# Altium footprint library n21-p2.PcbLib: 42 footprints (part 1 of 3)
Each footprint in its own frame and in the unit in brackets; x right, y up, seen from the top. Pads: shape width x height; smd on the part's side, far side on the other; paste and mask are expansions set on the pad; w line width, h text height; cw(c..) or ccw(c..) is an arc to the next point about the centre after c.
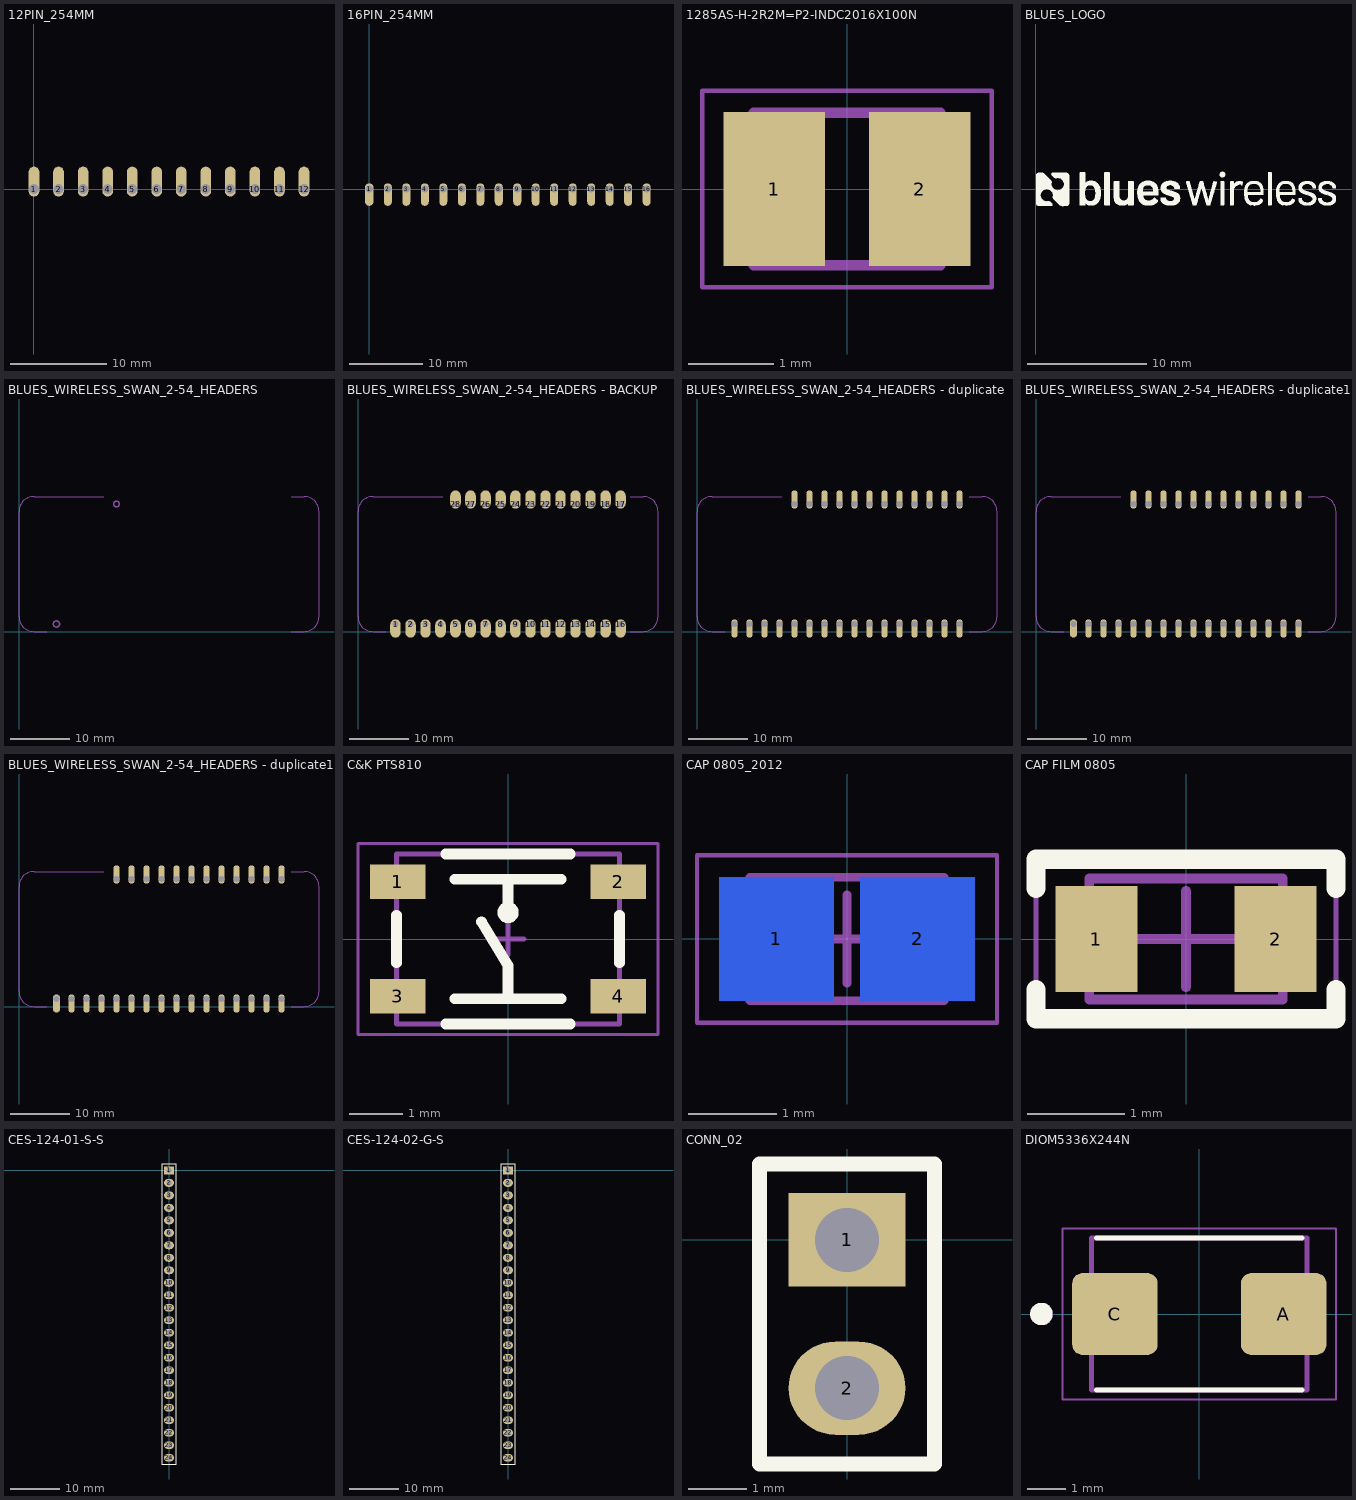
[diagram p0: the footprints below, top view; thin cyan lines are the x and y axes]

## 12PIN_254MM [mm]
pads (12):
  rrect100% 1.1x3.1 hole 1 copper offset 0,0.762: 1(0,0) 2(2.54,0) 3(5.08,0) 4(7.62,0) 5(10.16,0) 6(12.7,0) 7(15.24,0) 8(17.78,0) 9(20.32,0) 10(22.86,0) 11(25.4,0) 12(27.94,0)
3D body "CES-112-01-L-S.stp": height 5.09, standoff -3.24, extent -1.27,-1.524 29.21,1.524

## 16PIN_254MM [mm]
pads (16):
  rrect100% 1.16x3.1 hole 1 copper offset 0,-0.762: 1(0,0)
  rrect100% 1.1x3.1 hole 1 copper offset 0,-0.762: 2(2.54,0) 3(5.08,0) 4(7.62,0) 5(10.16,0) 6(12.7,0) 7(15.24,0) 8(17.78,0) 9(20.32,0) 10(22.86,0) 11(25.4,0) 12(27.94,0) 13(30.48,0) 14(33.02,0) 15(35.56,0) 16(38.1,0)
3D body "CES-116-01-L-S.stp": height 5.09, standoff -3.24, extent -1.27,-1.524 39.37,1.524

## 1285AS-H-2R2M=P2-INDC2016X100N [mm]
pads (2):
  rect 1.2x1.82 smd: 1(-0.86,0) 2(0.86,0)
Mechanical 13:
  lines w0.127: -1.1,-0.9 -1.1,0.9 1.1,0.9 1.1,-0.9 -1.1,-0.9
Mechanical 15:
  lines w0.05: -1.708,-1.158 -1.708,1.158 1.708,1.158 1.708,-1.158 -1.708,-1.158
3D body "step_temp.STEP": height 1.2, standoff 0, extent -1,-0.8 1,0.8

## BLUES_LOGO [mm]
Top Overlay:
  drawing of 15 lines, arcs and shapes, not listed

## BLUES_WIRELESS_SWAN_2-54_HEADERS [mm]
Mechanical 1:
  circle w0.254: c6.35,1.27 r0.532
  circle w0.254: c16.51,21.59 r0.49
Top 3D Body:
  lines w0: 4.699,0 2.54,0 cw(c2.54,2.54) 0,2.54 0,20.32 cw(c2.54,20.32) 2.54,22.86 14.351,22.86 ; 46.101,0 48.26,0 ccw(c48.26,2.54) 50.8,2.54 50.8,20.32 ccw(c48.26,20.32) 48.26,22.86 46.101,22.86

## BLUES_WIRELESS_SWAN_2-54_HEADERS - BACKUP [mm]
pads (28):
  rrect100% 1.778x3.1 hole 1 copper offset 0,-0.762: 1(6.35,1.27) 2(8.89,1.27) 3(11.43,1.27) 4(13.97,1.27) 5(16.51,1.27) 6(19.05,1.27) 7(21.59,1.27) 8(24.13,1.27) 9(26.67,1.27) 10(29.21,1.27) 11(31.75,1.27) 12(34.29,1.27) 13(36.83,1.27) 14(39.37,1.27) 15(41.91,1.27) 16(44.45,1.27)
  rrect100% 1.778x3.1 hole 1 copper offset 0,0.762: 17(44.45,21.59) 18(41.91,21.59) 19(39.37,21.59) 20(36.83,21.59) 21(34.29,21.59) 22(31.75,21.59) 23(29.21,21.59) 24(26.67,21.59) 25(24.13,21.59) 26(21.59,21.59) 27(19.05,21.59) 28(16.51,21.59)
Top 3D Body:
  lines w0: 4.699,0 2.54,0 cw(c2.54,2.54) 0,2.54 0,20.32 cw(c2.54,20.32) 2.54,22.86 14.351,22.86 ; 46.101,0 48.26,0 ccw(c48.26,2.54) 50.8,2.54 50.8,20.32 ccw(c48.26,20.32) 48.26,22.86 46.101,22.86

## BLUES_WIRELESS_SWAN_2-54_HEADERS - duplicate [mm]
pads (28):
  rrect100% 1.1x3.1 hole 1 copper offset 0,-0.762: 1(6.35,1.27) 2(8.89,1.27) 3(11.43,1.27) 4(13.97,1.27) 5(16.51,1.27) 6(19.05,1.27) 7(21.59,1.27) 8(24.13,1.27) 9(26.67,1.27) 10(29.21,1.27) 11(31.75,1.27) 12(34.29,1.27) 13(36.83,1.27) 14(39.37,1.27) 15(41.91,1.27) 16(44.45,1.27)
  rrect100% 1.1x3.1 hole 1 copper offset 0,0.762: 17(44.45,21.59) 18(41.91,21.59) 19(39.37,21.59) 20(36.83,21.59) 21(34.29,21.59) 22(31.75,21.59) 23(29.21,21.59) 24(26.67,21.59) 25(24.13,21.59) 26(21.59,21.59) 27(19.05,21.59) 28(16.51,21.59)
Top 3D Body:
  lines w0: 4.699,0 2.54,0 cw(c2.54,2.54) 0,2.54 0,20.32 cw(c2.54,20.32) 2.54,22.86 14.351,22.86 ; 46.101,0 48.26,0 ccw(c48.26,2.54) 50.8,2.54 50.8,20.32 ccw(c48.26,20.32) 48.26,22.86 46.101,22.86

## BLUES_WIRELESS_SWAN_2-54_HEADERS - duplicate1 [mm]
pads (28):
  rrect100% 1.16x3.1 hole 1 copper offset 0,-0.762: 1(6.35,1.27)
  rrect100% 1.1x3.1 hole 1 copper offset 0,-0.762: 2(8.89,1.27) 3(11.43,1.27) 4(13.97,1.27) 5(16.51,1.27) 6(19.05,1.27) 7(21.59,1.27) 8(24.13,1.27) 9(26.67,1.27) 10(29.21,1.27) 11(31.75,1.27) 12(34.29,1.27) 13(36.83,1.27) 14(39.37,1.27) 15(41.91,1.27) 16(44.45,1.27)
  rrect100% 1.1x3.1 hole 1 copper offset 0,0.762: 17(44.45,21.59) 18(41.91,21.59) 19(39.37,21.59) 20(36.83,21.59) 21(34.29,21.59) 22(31.75,21.59) 23(29.21,21.59) 24(26.67,21.59) 25(24.13,21.59) 26(21.59,21.59) 27(19.05,21.59) 28(16.51,21.59)
Top 3D Body:
  lines w0: 4.699,0 2.54,0 cw(c2.54,2.54) 0,2.54 0,20.32 cw(c2.54,20.32) 2.54,22.86 14.351,22.86 ; 46.101,0 48.26,0 ccw(c48.26,2.54) 50.8,2.54 50.8,20.32 ccw(c48.26,20.32) 48.26,22.86 46.101,22.86

## BLUES_WIRELESS_SWAN_2-54_HEADERS - duplicate1 - duplicate [mm]
pads (28):
  rrect100% 1.16x3.1 hole 1 copper offset 0,-0.762: 1(6.35,1.27)
  rrect100% 1.1x3.1 hole 1 copper offset 0,-0.762: 2(8.89,1.27) 3(11.43,1.27) 4(13.97,1.27) 5(16.51,1.27) 6(19.05,1.27) 7(21.59,1.27) 8(24.13,1.27) 9(26.67,1.27) 10(29.21,1.27) 11(31.75,1.27) 12(34.29,1.27) 13(36.83,1.27) 14(39.37,1.27) 15(41.91,1.27) 16(44.45,1.27)
  rrect100% 1.1x3.1 hole 1 copper offset 0,0.762: 17(44.45,21.59) 18(41.91,21.59) 19(39.37,21.59) 20(36.83,21.59) 21(34.29,21.59) 22(31.75,21.59) 23(29.21,21.59) 24(26.67,21.59) 25(24.13,21.59) 26(21.59,21.59) 27(19.05,21.59) 28(16.51,21.59)
Top 3D Body:
  lines w0: 4.699,0 2.54,0 cw(c2.54,2.54) 0,2.54 0,20.32 cw(c2.54,20.32) 2.54,22.86 14.351,22.86 ; 46.101,0 48.26,0 ccw(c48.26,2.54) 50.8,2.54 50.8,20.32 ccw(c48.26,20.32) 48.26,22.86 46.101,22.86

## C&K PTS810 [mm] "T-Switch, 4-leads, body 4.2x3.2mm, C&K PTS810 SJM 250 SMTR LFS"
height 2.5
pads (4):
  rect 1.05x0.65 smd mask+0.1: 1(-2.075,1.075) 2(2.075,1.075) 3(-2.075,-1.075) 4(2.075,-1.075)
Top Overlay:
  circle w0.2: c0,0.5 r0.1
  lines w0.2: -2.1,-0.45 -2.1,0.45 ; -1.175,-1.6 1.175,-1.6 ; -1.175,1.6 1.175,1.6 ; -1,-1.125 1,-1.125 ; -1,1.125 1,1.125 ; -0.5,0.325 0,-0.5 0,-1.125 ; 0,0.5 0,1.125 ; 2.1,-0.45 2.1,0.45
Mechanical 13:
  lines w0.1: -2.1,-1.6 2.1,-1.6 2.1,1.6 -2.1,1.6 -2.1,-1.6
Mechanical 15:
  lines w0.05: -2.825,-1.8 2.825,-1.8 2.825,1.8 -2.825,1.8 -2.825,-1.8
  lines w0.1: -0.3,0 0.3,0 ; 0,-0.3 0,0.3
3D body "C&K - PTS810.step": height 2.7, standoff 0, extent -2.287,-1.6 2.288,1.6

## CAP 0805_2012 [mm] "Chip Capacitor, 2-Leads, Body 2.00x1.20mm, IPC Medium Density"
height 1.15
pads (2):
  rect 1.3x1.4 smd far side: 1(-0.8,0) 2(0.8,0)
Bottom Overlay:
  lines w0.15: -1.7,-0.5 -1.7,-0.9 1.7,-0.9 1.7,-0.5 ; -1.7,0.5 -1.7,0.9 1.7,0.9 1.7,0.5
Mechanical 13:
  lines w0.1: -1.1,-0.7 -1.1,0.7 1.1,0.7 1.1,-0.7 -1.1,-0.7
Mechanical 15:
  lines w0.05: -1.7,-0.95 -1.7,0.95 1.7,0.95 1.7,-0.95 -1.7,-0.95
  lines w0.1: -0.5,0 0.5,0 ; 0,-0.5 0,0.5
3D body "0805 cap.STEP": height 1.26, standoff -0.02, extent -1,-0.637 1,0.637

## CAP FILM 0805 [mm] "J2, Film Capacitor PPS , 2-Leads, Body 2.00x1.25mm, IPC Medium Density"
height 1
pads (2):
  rect 0.85x1.1 smd: 1(-0.925,0) 2(0.925,0)
Top Overlay:
  lines w0.2: -1.55,-0.525 -1.55,-0.825 1.55,-0.825 1.55,-0.525 ; -1.55,0.525 -1.55,0.825 1.55,0.825 1.55,0.525
Mechanical 13:
  lines w0.1: -1,-0.625 -1,0.625 1,0.625 1,-0.625 -1,-0.625
Mechanical 15:
  lines w0.05: -1.55,-0.825 1.55,-0.825 1.55,0.825 -1.55,0.825 -1.55,-0.825
  lines w0.1: -0.5,0 0.5,0 ; 0,-0.5 0,0.5
3D body "CAP FILM - 0805.step": height 1.2, standoff 0, extent -1,-0.616 1,0.616

## CES-124-01-S-S [mm] "24x1 0.1\" female headers"
pads (24):
  rect 2x1.6 hole 1.1: 1(0,0)
  oval 2x1.6 hole 1.1: 2(0,-2.54) 3(0,-5.08) 4(0,-7.62) 5(0,-10.16) 6(0,-12.7) 7(0,-15.24) 8(0,-17.78) 9(0,-20.32) 10(0,-22.86) 11(0,-25.4) 12(0,-27.94) 13(0,-30.48) 14(0,-33.02) 15(0,-35.56) 16(0,-38.1) 17(0,-40.64) 18(0,-43.18) 19(0,-45.72) 20(0,-48.26) 21(0,-50.8) 22(0,-53.34) 23(0,-55.88) 24(0,-58.42)
Top Overlay:
  lines w0.254: -1.5,-59.7 1.5,-59.7 1.5,1.3 -1.5,1.3 -1.5,-59.7
3D body "CES-124-01-S-S.stp": height 5.09, standoff -3.24, extent -1.524,-59.7 1.524,1.26

## CES-124-02-G-S [mm] "24x1 0.1\" female headers"
pads (24):
  rect 2x1.6 hole 1.1: 1(0,0)
  oval 2x1.6 hole 1.1: 2(0,-2.54) 3(0,-5.08) 4(0,-7.62) 5(0,-10.16) 6(0,-12.7) 7(0,-15.24) 8(0,-17.78) 9(0,-20.32) 10(0,-22.86) 11(0,-25.4) 12(0,-27.94) 13(0,-30.48) 14(0,-33.02) 15(0,-35.56) 16(0,-38.1) 17(0,-40.64) 18(0,-43.18) 19(0,-45.72) 20(0,-48.26) 21(0,-50.8) 22(0,-53.34) 23(0,-55.88) 24(0,-58.42)
Top Overlay:
  lines w0.254: -1.5,-59.7 -1.5,1.3 1.5,1.3 1.5,-59.7 -1.5,-59.7
3D body "CES-124-02-S-S.stp": height 5.09, standoff -5.65, extent -1.524,-59.7 1.524,1.26

## CONN_02 [mm] "0.1\" 2 PIN header"
pads (2):
  rect 2x1.6 hole 1.1: 1(0,0)
  oval 2x1.6 hole 1.1: 2(0,-2.54)
Top Overlay:
  lines w0.254: -1.5,-3.84 1.5,-3.84 ; -1.5,-3.81 -1.5,1.3 1.5,1.3 1.5,-3.81

## DIOM5336X244N [mm]
pads (2):
  rrect25% 2.22x2.13 smd: A(2.19,0) C(-2.19,0)
Top Overlay:
  circle w0.3: c-4.1,0 r0.141
  lines w0.127: -2.67,-1.97 2.67,-1.97 ; -2.67,1.97 2.67,1.97
Mechanical 13:
  circle w0.3: c-4.1,0 r0.141
  lines w0.127: -2.8,-1.97 2.8,-1.97 2.8,1.97 -2.8,1.97 -2.8,-1.97
Mechanical 15:
  lines w0.05: -3.55,-2.22 3.55,-2.22 3.55,2.22 -3.55,2.22 -3.55,-2.22
3D body "SMB Package.step": height 2.26, standoff 0.01, extent -2.7,-1.756 2.7,1.8